# EAGLE library part UE27AC5410H (library con-amphenol)
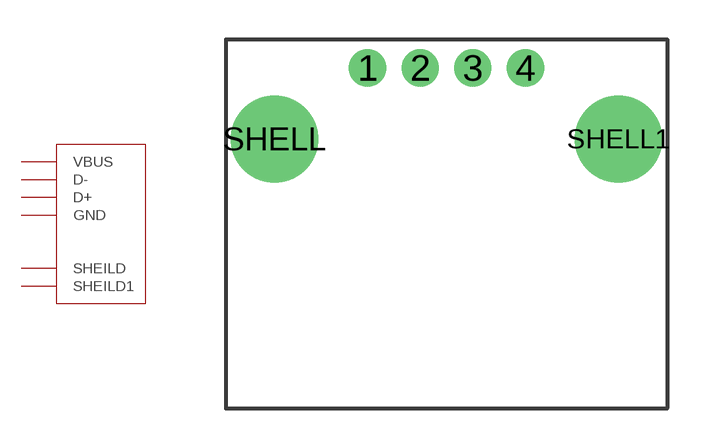
[diagram p14: symbol with the pads of UE27AC5410H; footprint UE27AC5410H]

Designator prefix -

## UE27AC5410H  [UE27AC5410H]
1  VBUS
2  D-
3  D+
4  GND
SHELL  SHEILD
SHELL1  SHEILD1

## Footprint UE27AC5410H (pad centres in mm)
drill 0.914: 1 3.556,2.718; 2 5.563,2.718; 3 7.569,2.718; 4 9.576,2.718
drill 2.311: SHELL 0,0; SHELL1 13.132,0